# EAGLE library part 658803713080 (library WR-BTB)
WR-BTB 0.80 mm Female Vertical SMT 3.75 Receptacle w. Chamfer KIND PROPERTIES: Pitch 0.8 mm Quality Class 30 Mating cycles MATERIAL PROPERTIES: Insulator Material LCP Insulator Flammability Rating UL94 V-0 Insulator Color Ivory Contact Copper Alloy Contact Plating Selective Gold Contact Type Stamped GENERAL PROPERTIES: Operating Temperature -55 °C up to +85 °C Compliance Lead free / RoHS ELECTRICAL PROPERTIES: Rated Current [1] 0.5 A Working Voltage 50 V (AC) Withstanding Voltage 500 V (AC) Contact Resistance 50 mΩ Insulation Resistance 100 MΩ PACKAGING PROPERTIES: Packaging Tape and Reel with Cap <https://www.we-online.com/catalog/media/o97327v209%20Family_WR-BTB_658803703080.jpg> Details see: https://www.we-online.com/katalog/en/em/BTB_0_80_FEMALE_SMT_VERTICAL_RECEPTACLE_H3_75_W_CHAMFER_658803713XXX Updated by Yingchun,Shan 2019-10-15 2019 (C) Würth Elektronik
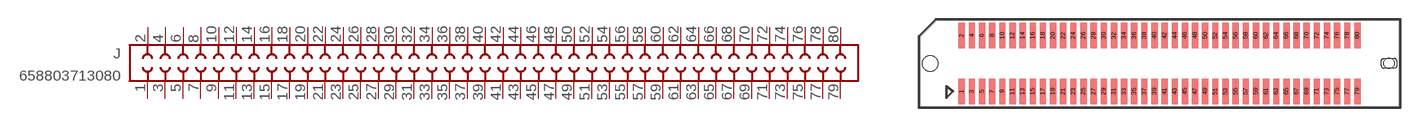
[diagram p11: symbol with the pads of 658803713080; footprint 658803713080]

Designator prefix J

## 658803713080 (DATASHEET-URL: https://www.we-online.com/catalog/datasheet/658803713080.pdf; GENDER: Female Receptacle; IR: 0.5A; PACKAGING: Tape and Reel with Cap; PART-NUMBER: 658803713080; PINS: 80; TYPE: Vertical; VALUE: 658803713080)  [658803713080]
1  1  pas
2  2  pas
3  3  pas
4  4  pas
5  5  pas
6  6  pas
7  7  pas
8  8  pas
9  9  pas
10  10  pas
11  11  pas
12  12  pas
13  13  pas
14  14  pas
15  15  pas
16  16  pas
17  17  pas
18  18  pas
19  19  pas
20  20  pas
21  21  pas
22  22  pas
23  23  pas
24  24  pas
25  25  pas
26  26  pas
27  27  pas
28  28  pas
29  29  pas
30  30  pas
31  31  pas
32  32  pas
33  33  pas
34  34  pas
35  35  pas
36  36  pas
37  37  pas
38  38  pas
39  39  pas
40  40  pas
41  41  pas
42  42  pas
43  43  pas
44  44  pas
45  45  pas
46  46  pas
47  47  pas
48  48  pas
49  49  pas
50  50  pas
51  51  pas
52  52  pas
53  53  pas
54  54  pas
55  55  pas
56  56  pas
57  57  pas
58  58  pas
59  59  pas
60  60  pas
61  61  pas
62  62  pas
63  63  pas
64  64  pas
65  65  pas
66  66  pas
67  67  pas
68  68  pas
69  69  pas
70  70  pas
71  71  pas
72  72  pas
73  73  pas
74  74  pas
75  75  pas
76  76  pas
77  77  pas
78  78  pas
79  79  pas
80  80  pas

## Footprint 658803713080 (pad centres in mm)
Con-BTB 0.80 mm Female Vertical SMT 3.75 Receptacle w. Chamfer 80 Pins
smd 0.5 x 2: 1 -15.6,-2.2; 2 -15.6,2.2; 3 -14.8,-2.2; 4 -14.8,2.2; 5 -14,-2.2; 6 -14,2.2; 7 -13.2,-2.2; 8 -13.2,2.2; 9 -12.4,-2.2; 10 -12.4,2.2; 11 -11.6,-2.2; 12 -11.6,2.2; 13 -10.8,-2.2; 14 -10.8,2.2; 15 -10,-2.2; 16 -10,2.2; 17 -9.2,-2.2; 18 -9.2,2.2; 19 -8.4,-2.2; 20 -8.4,2.2; 21 -7.6,-2.2; 22 -7.6,2.2; 23 -6.8,-2.2; 24 -6.8,2.2; 25 -6,-2.2; 26 -6,2.2; 27 -5.2,-2.2; 28 -5.2,2.2; 29 -4.4,-2.2; 30 -4.4,2.2; 31 -3.6,-2.2; 32 -3.6,2.2; 33 -2.8,-2.2; 34 -2.8,2.2; 35 -2,-2.2; 36 -2,2.2; 37 -1.2,-2.2; 38 -1.2,2.2; 39 -0.4,-2.2; 40 -0.4,2.2; 41 0.4,-2.2; 42 0.4,2.2; 43 1.2,-2.2; 44 1.2,2.2; 45 2,-2.2; 46 2,2.2; 47 2.8,-2.2; 48 2.8,2.2; 49 3.6,-2.2; 50 3.6,2.2; 51 4.4,-2.2; 52 4.4,2.2; 53 5.2,-2.2; 54 5.2,2.2; 55 6,-2.2; 56 6,2.2; 57 6.8,-2.2; 58 6.8,2.2; 59 7.6,-2.2; 60 7.6,2.2; 61 8.4,-2.2; 62 8.4,2.2; 63 9.2,-2.2; 64 9.2,2.2; 65 10,-2.2; 66 10,2.2; 67 10.8,-2.2; 68 10.8,2.2; 69 11.6,-2.2; 70 11.6,2.2; 71 12.4,-2.2; 72 12.4,2.2; 73 13.2,-2.2; 74 13.2,2.2; 75 14,-2.2; 76 14,2.2; 77 14.8,-2.2; 78 14.8,2.2; 79 15.6,-2.2; 80 15.6,2.2
hole 1.2 at -18.1,0
hole 0.8 at 18.1,0